# Altium schematic symbol library Diodes.SchLib: 5 symbols
Pins are listed as number, name and electrical type; pins without a type are passive.

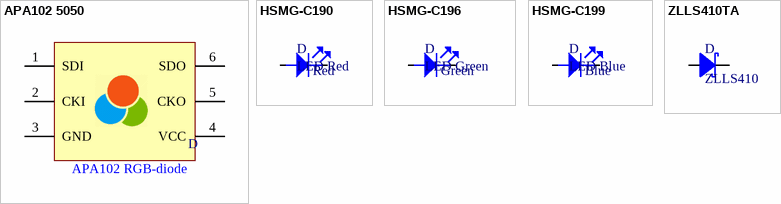
[diagram p0: symbols APA102 5050 to ZLLS410TA]

## APA102 5050
designator D
LED APA 102 5050 RGB
footprint APA102 5050
pins: 1 SDI, 2 CKI, 3 GND, 4 VCC, 5 CKO, 6 SDO
text: APA102 RGB-diode

## HSMG-C190
designator D, comment LED Red  Color: Red
LED 0603 Red
footprint L0603 RED
pins: 1, 2

## HSMG-C196
designator D, comment LED Green  Color: Green
LED 0603 Green
footprint L0603 GREEN
pins: 1, 2

## HSMG-C199
designator D, comment LED Blue  Color: Blue
LED 0603 Blue
footprint L0603 BLUE
pins: 1, 2

## ZLLS410TA
designator D, comment ZLLS410
Schottky diode, small signal, 580mV; Supplier Part Number 1: 1843764; Supplier 1: Farnell
footprint ZLLS410
pins: 1, 2